# Altium footprint library Misc.PcbLib: 5 footprints
Each footprint in its own frame and in the unit in brackets; x right, y up, seen from the top. Pads: shape width x height; smd on the part's side, far side on the other; paste and mask are expansions set on the pad; w line width, h text height; cw(c..) or ccw(c..) is an arc to the next point about the centre after c.
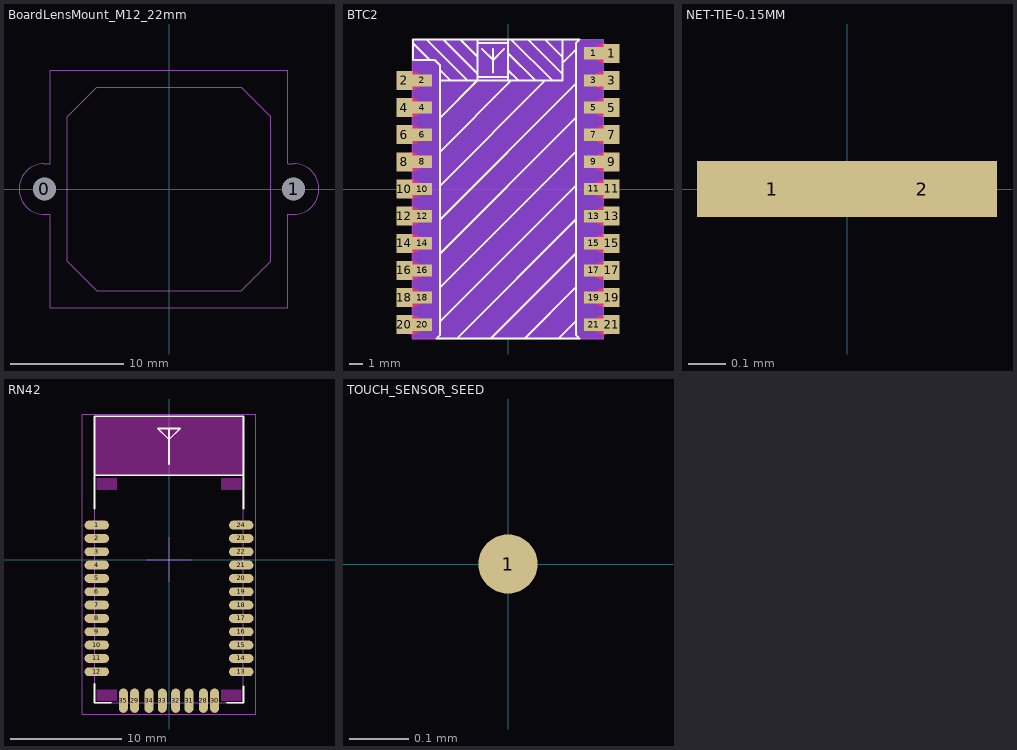
[diagram p0: the footprints below, top view; thin cyan lines are the x and y axes]

## BoardLensMount_M12_22mm [mm] "M12 (S-Mount) board lens mount base, 22mm hole distance, 16mm height"
height 16
pads (2):
  round 2 hole 2 unplated: 0(-11,0) 1(11,0)
Mechanical 13:
  lines w0.1: -11,-2.25 cw(c-11,0) -11,2.25 -10.5,2.25 -10.5,10.5 10.5,10.5 10.5,2.25 11,2.25 cw(c11,0) 11,-2.25 10.5,-2.25 10.5,-10.5 -10.5,-10.5 -10.5,-2.25 -11,-2.25 ; -9,-6.4 -9,6.4 -6.4,9 6.4,9 9,6.4 9,-6.4 6.4,-9 -6.4,-9 -9,-6.4
3D body: height 16, standoff 0, extent -13.25,-10.5 13.25,10.5

## BTC2 [mm]
pads (42):
  rect 1.45x0.9 smd: 1(6.325,10) 2(-6.325,8) 3(6.325,8) 4(-6.325,6) 5(6.325,6) 6(-6.325,4) 7(6.325,4) 8(-6.325,2) 9(6.325,2) 10(-6.325,0) 11(6.325,0) 12(-6.325,-2) 13(6.325,-2) 14(-6.325,-4) 15(6.325,-4) 16(-6.325,-6) 17(6.325,-6) 18(-6.325,-8) 19(6.325,-8) 20(-6.325,-10) 21(6.325,-10)
  rect 1.15x1.4 smd: 1(7.625,10) 2(-7.625,8) 3(7.625,8) 4(-7.625,6) 5(7.625,6) 6(-7.625,4) 7(7.625,4) 8(-7.625,2) 9(7.625,2) 10(-7.625,0) 11(7.625,0) 12(-7.625,-2) 13(7.625,-2) 14(-7.625,-4) 15(7.625,-4) 16(-7.625,-6) 17(7.625,-6) 18(-7.625,-8) 19(7.625,-8) 20(-7.625,-10) 21(7.625,-10)
Top Layer:
  region: -7.05,-9.294 -6.867,-9.318 -6.697,-9.389 -6.551,-9.501 -6.439,-9.647 -6.368,-9.817 -6.344,-10 -6.368,-10.183 -6.439,-10.353 -6.551,-10.499 -6.697,-10.611 -6.867,-10.682 -7.05,-10.706 -7.233,-10.682 -7.403,-10.611 -7.549,-10.499 -7.661,-10.353 -7.732,-10.183 -7.756,-10 -7.732,-9.817 -7.661,-9.647 -7.549,-9.501 -7.403,-9.389 -7.233,-9.318
  region: -7.05,-7.294 -6.867,-7.318 -6.697,-7.389 -6.551,-7.501 -6.439,-7.647 -6.368,-7.817 -6.344,-8 -6.368,-8.183 -6.439,-8.353 -6.551,-8.499 -6.697,-8.611 -6.867,-8.682 -7.05,-8.706 -7.233,-8.682 -7.403,-8.611 -7.549,-8.499 -7.661,-8.353 -7.732,-8.183 -7.756,-8 -7.732,-7.817 -7.661,-7.647 -7.549,-7.501 -7.403,-7.389 -7.233,-7.318
  region: -7.05,-5.294 -6.867,-5.318 -6.697,-5.389 -6.551,-5.501 -6.439,-5.647 -6.368,-5.817 -6.344,-6 -6.368,-6.183 -6.439,-6.353 -6.551,-6.499 -6.697,-6.611 -6.867,-6.682 -7.05,-6.706 -7.233,-6.682 -7.403,-6.611 -7.549,-6.499 -7.661,-6.353 -7.732,-6.183 -7.756,-6 -7.732,-5.817 -7.661,-5.647 -7.549,-5.501 -7.403,-5.389 -7.233,-5.318
  region: -7.05,-3.294 -6.867,-3.318 -6.697,-3.389 -6.551,-3.501 -6.439,-3.647 -6.368,-3.817 -6.344,-4 -6.368,-4.183 -6.439,-4.353 -6.551,-4.499 -6.697,-4.611 -6.867,-4.682 -7.05,-4.706 -7.233,-4.682 -7.403,-4.611 -7.549,-4.499 -7.661,-4.353 -7.732,-4.183 -7.756,-4 -7.732,-3.817 -7.661,-3.647 -7.549,-3.501 -7.403,-3.389 -7.233,-3.318
  region: -7.05,-1.294 -6.867,-1.318 -6.697,-1.389 -6.551,-1.501 -6.439,-1.647 -6.368,-1.817 -6.344,-2 -6.368,-2.183 -6.439,-2.353 -6.551,-2.499 -6.697,-2.611 -6.867,-2.682 -7.05,-2.706 -7.233,-2.682 -7.403,-2.611 -7.549,-2.499 -7.661,-2.353 -7.732,-2.183 -7.756,-2 -7.732,-1.817 -7.661,-1.647 -7.549,-1.501 -7.403,-1.389 -7.233,-1.318
  region: -7.05,0.706 -6.867,0.682 -6.697,0.611 -6.551,0.499 -6.439,0.353 -6.368,0.183 -6.344,0 -6.368,-0.183 -6.439,-0.353 -6.551,-0.499 -6.697,-0.611 -6.867,-0.682 -7.05,-0.706 -7.233,-0.682 -7.403,-0.611 -7.549,-0.499 -7.661,-0.353 -7.732,-0.183 -7.756,0 -7.732,0.183 -7.661,0.353 -7.549,0.499 -7.403,0.611 -7.233,0.682
  region: -7.05,2.706 -6.867,2.682 -6.697,2.611 -6.551,2.499 -6.439,2.353 -6.368,2.183 -6.344,2 -6.368,1.817 -6.439,1.647 -6.551,1.501 -6.697,1.389 -6.867,1.318 -7.05,1.294 -7.233,1.318 -7.403,1.389 -7.549,1.501 -7.661,1.647 -7.732,1.817 -7.756,2 -7.732,2.183 -7.661,2.353 -7.549,2.499 -7.403,2.611 -7.233,2.682
  region: -7.05,4.706 -6.867,4.682 -6.697,4.611 -6.551,4.499 -6.439,4.353 -6.368,4.183 -6.344,4 -6.368,3.817 -6.439,3.647 -6.551,3.501 -6.697,3.389 -6.867,3.318 -7.05,3.294 -7.233,3.318 -7.403,3.389 -7.549,3.501 -7.661,3.647 -7.732,3.817 -7.756,4 -7.732,4.183 -7.661,4.353 -7.549,4.499 -7.403,4.611 -7.233,4.682
  region: -7.05,6.706 -6.867,6.682 -6.697,6.611 -6.551,6.499 -6.439,6.353 -6.368,6.183 -6.344,6 -6.368,5.817 -6.439,5.647 -6.551,5.501 -6.697,5.389 -6.867,5.318 -7.05,5.294 -7.233,5.318 -7.403,5.389 -7.549,5.501 -7.661,5.647 -7.732,5.817 -7.756,6 -7.732,6.183 -7.661,6.353 -7.549,6.499 -7.403,6.611 -7.233,6.682
  region: 7.05,-10.706 6.867,-10.682 6.697,-10.611 6.551,-10.499 6.439,-10.353 6.368,-10.183 6.344,-10 6.368,-9.817 6.439,-9.647 6.551,-9.501 6.697,-9.389 6.867,-9.318 7.05,-9.294 7.233,-9.318 7.403,-9.389 7.549,-9.501 7.661,-9.647 7.732,-9.817 7.756,-10 7.732,-10.183 7.661,-10.353 7.549,-10.499 7.403,-10.611 7.233,-10.682
  region: 7.05,-8.706 6.867,-8.682 6.697,-8.611 6.551,-8.499 6.439,-8.353 6.368,-8.183 6.344,-8 6.368,-7.817 6.439,-7.647 6.551,-7.501 6.697,-7.389 6.867,-7.318 7.05,-7.294 7.233,-7.318 7.403,-7.389 7.549,-7.501 7.661,-7.647 7.732,-7.817 7.756,-8 7.732,-8.183 7.661,-8.353 7.549,-8.499 7.403,-8.611 7.233,-8.682
  region: 7.05,-6.706 6.867,-6.682 6.697,-6.611 6.551,-6.499 6.439,-6.353 6.368,-6.183 6.344,-6 6.368,-5.817 6.439,-5.647 6.551,-5.501 6.697,-5.389 6.867,-5.318 7.05,-5.294 7.233,-5.318 7.403,-5.389 7.549,-5.501 7.661,-5.647 7.732,-5.817 7.756,-6 7.732,-6.183 7.661,-6.353 7.549,-6.499 7.403,-6.611 7.233,-6.682
  region: 7.05,-4.706 6.867,-4.682 6.697,-4.611 6.551,-4.499 6.439,-4.353 6.368,-4.183 6.344,-4 6.368,-3.817 6.439,-3.647 6.551,-3.501 6.697,-3.389 6.867,-3.318 7.05,-3.294 7.233,-3.318 7.403,-3.389 7.549,-3.501 7.661,-3.647 7.732,-3.817 7.756,-4 7.732,-4.183 7.661,-4.353 7.549,-4.499 7.403,-4.611 7.233,-4.682
  region: 7.05,-2.706 6.867,-2.682 6.697,-2.611 6.551,-2.499 6.439,-2.353 6.368,-2.183 6.344,-2 6.368,-1.817 6.439,-1.647 6.551,-1.501 6.697,-1.389 6.867,-1.318 7.05,-1.294 7.233,-1.318 7.403,-1.389 7.549,-1.501 7.661,-1.647 7.732,-1.817 7.756,-2 7.732,-2.183 7.661,-2.353 7.549,-2.499 7.403,-2.611 7.233,-2.682
  region: 7.05,-0.706 6.867,-0.682 6.697,-0.611 6.551,-0.499 6.439,-0.353 6.368,-0.183 6.344,0 6.368,0.183 6.439,0.353 6.551,0.499 6.697,0.611 6.867,0.682 7.05,0.706 7.233,0.682 7.403,0.611 7.549,0.499 7.661,0.353 7.732,0.183 7.756,0 7.732,-0.183 7.661,-0.353 7.549,-0.499 7.403,-0.611 7.233,-0.682
  region: 7.05,1.294 6.867,1.318 6.697,1.389 6.551,1.501 6.439,1.647 6.368,1.817 6.344,2 6.368,2.183 6.439,2.353 6.551,2.499 6.697,2.611 6.867,2.682 7.05,2.706 7.233,2.682 7.403,2.611 7.549,2.499 7.661,2.353 7.732,2.183 7.756,2 7.732,1.817 7.661,1.647 7.549,1.501 7.403,1.389 7.233,1.318
  region: 7.05,3.294 6.867,3.318 6.697,3.389 6.551,3.501 6.439,3.647 6.368,3.817 6.344,4 6.368,4.183 6.439,4.353 6.551,4.499 6.697,4.611 6.867,4.682 7.05,4.706 7.233,4.682 7.403,4.611 7.549,4.499 7.661,4.353 7.732,4.183 7.756,4 7.732,3.817 7.661,3.647 7.549,3.501 7.403,3.389 7.233,3.318
  region: 7.05,5.294 6.867,5.318 6.697,5.389 6.551,5.501 6.439,5.647 6.368,5.817 6.344,6 6.368,6.183 6.439,6.353 6.551,6.499 6.697,6.611 6.867,6.682 7.05,6.706 7.233,6.682 7.403,6.611 7.549,6.499 7.661,6.353 7.732,6.183 7.756,6 7.732,5.817 7.661,5.647 7.549,5.501 7.403,5.389 7.233,5.318
  region: 7.05,7.294 6.867,7.318 6.697,7.389 6.551,7.501 6.439,7.647 6.368,7.817 6.344,8 6.368,8.183 6.439,8.353 6.551,8.499 6.697,8.611 6.867,8.682 7.05,8.706 7.233,8.682 7.403,8.611 7.549,8.499 7.661,8.353 7.732,8.183 7.756,8 7.732,7.817 7.661,7.647 7.549,7.501 7.403,7.389 7.233,7.318
  region: 7.05,9.294 6.867,9.318 6.697,9.389 6.551,9.501 6.439,9.647 6.368,9.817 6.344,10 6.368,10.183 6.439,10.353 6.551,10.499 6.697,10.611 6.867,10.682 7.05,10.706 7.233,10.682 7.403,10.611 7.549,10.499 7.661,10.353 7.732,10.183 7.756,10 7.732,9.817 7.661,9.647 7.549,9.501 7.403,9.389 7.233,9.318
  region: -7.05,8.706 -6.867,8.682 -6.697,8.611 -6.551,8.499 -6.439,8.353 -6.368,8.183 -6.344,8 -6.368,7.817 -6.439,7.647 -6.551,7.501 -6.697,7.389 -6.867,7.318 -7.05,7.294 -7.233,7.318 -7.403,7.389 -7.549,7.501 -7.661,7.647 -7.732,7.817 -7.756,8 -7.732,8.183 -7.661,8.353 -7.549,8.499 -7.403,8.611 -7.233,8.682
Bottom Layer keep-out:
  region: -7,11 -7,-11 7.05,-11 7.05,11
Top Overlay:
  lines w0.15: -7,10.75 -5.75,9.5 ; -6,11 -3,8 ; -5,-9.75 5,0.25 ; -5,-7.25 5,2.75 ; -5,-4.75 5,5.25 ; -5,-2.25 5,7.75 ; -5,0.25 2.75,8 ; -5,2.75 0.25,8 ; -5,5.25 -2.25,8 -2.25,11 ; -5,8 4,8 4,11 ; -5,8.75 -4.25,8 ; -4.75,11 -2.25,8.5 ; -3.75,-11 5,-2.25 ; -3.5,11 -2.25,9.75 ; -2.25,8.25 0,8.25 ; -2.25,10.75 0,10.75 ; -1.9,10.3 -1.1,9.5 ; -1.25,-11 5,-4.75 ; -1.1,8.6 -1.1,9.5 ; -1.1,10.3 -1.1,9.5 ; -0.3,10.3 -1.1,9.5 ; 0,8 0,11 ; 0,8.75 0.75,8 ; 0,10 2,8 ; 0.25,11 3.25,8 ; 1.25,-11 5,-7.25 ; 1.5,11 4,8.5 ; 2.75,11 4,9.75 ; 3.75,-11 5,-9.75 ; 4,9.25 5,10.25 ; -7,9.5 -5.4,9.5 -5,9.1 -5,-10.75 -5.25,-11 -4.8,-11 5.25,-11 5,-10.75 5,10.75 5.25,11 -7,11 -7,9.5
Bottom Overlay:
  lines w0.15: -7,-9.25 0.5,-1.75 ; -7,-6.75 -2,-1.75 ; -7,-4.25 -4.5,-1.75 ; -7,-1.75 -6.25,-1 ; -7,0.75 -6.25,1.5 ; -7,3.25 -2.25,8 -2.25,11 ; -7,5.724 -4.737,7.987 ; -7,9.5 -5.5,8 ; -7,10.75 -4.275,8.025 ; -6.25,-11 3,-1.75 ; -6,1.75 0.25,8 ; -6,11 -3,8 ; -4.75,11 -2.25,8.5 ; -3.75,-11 5.5,-1.75 ; -3.5,1.75 2.75,8 ; -3.5,11 -2.25,9.75 ; -2.25,8.25 0,8.25 ; -2.25,10.75 0,10.75 ; -1.9,10.3 -1.1,9.5 ; -1.25,-11 7.05,-2.7 ; -1.1,8.6 -1.1,9.5 ; -1.1,10.3 -1.1,9.5 ; -1,1.75 7.05,9.8 ; -0.3,10.3 -1.1,9.5 ; 0,8 0,10.975 ; 0,8.75 0.75,8 ; 0,10 2,8 ; 0.25,11 3.25,8 ; 1.25,-11 7.05,-5.2 ; 1.5,1.75 7.05,7.3 ; 1.5,11 4,8.5 ; 2.75,11 4,9.75 ; 3.75,-11 7.05,-7.7 ; 4,1.75 7.05,4.8 ; 4,9.25 5.75,11 ; 4,11 4,8 -7,8 ; 6.25,-11 7.05,-10.2 ; 6.25,1.5 7.05,2.3 ; 6.275,-1.025 7.05,-0.25 ; -7,8 -7,-11 -4.8,-11 7.05,-11 7.05,11 -7,11 -7,8 ; -6.25,-1.75 6.25,-1.75 6.25,1.75 -6.25,1.75 -6.25,-1.75
  text "Keep Out" at 5.5,-0.75 h1.52
Keep-Out Layer:
  drawing of 131 lines, arcs and shapes, not listed
Mechanical 13:
  lines w0.1: -7,-11 7,-11 7,11 -7,11 -7,-11
3D body: height 3, standoff 0, extent -7,-11 7,11

## NET-TIE-0.15MM [mm] "Net tie, 0.15mm track width"
pads (2):
  rect 0.4x0.15 smd paste-0.075 mask+0: 1(-0.2,0) 2(0.2,0)

## RN42 [mm] "Microchip RN42 Bluetooth Module"
height 2.4
pads (32):
  oval 2.2x0.8 smd: 1(-6.5,3.1) 2(-6.5,1.9) 3(-6.5,0.7) 4(-6.5,-0.5) 5(-6.5,-1.7) 6(-6.5,-2.9) 7(-6.5,-4.1) 8(-6.5,-5.3) 9(-6.5,-6.5) 10(-6.5,-7.7) 11(-6.5,-8.9) 12(-6.5,-10.1) 13(6.5,-10.1) 14(6.5,-8.9) 15(6.5,-7.7) 16(6.5,-6.5) 17(6.5,-5.3) 18(6.5,-4.1) 19(6.5,-2.9) 20(6.5,-1.7) 21(6.5,-0.5) 22(6.5,0.7) 23(6.5,1.9) 24(6.5,3.1)
  oval 0.8x2.2 smd mask+0.05: 28(3.1,-12.7) 29(-3.1,-12.7) 30(4.1,-12.7) 35(-4.1,-12.7)
  oval 0.8x2.2 smd: 31(1.8,-12.7) 32(0.6,-12.7) 33(-0.6,-12.7) 34(-1.8,-12.7)
Top Layer keep-out:
  region: -6.5,-12.7 -6.5,-11.7 -4.7,-11.7 -4.7,-12.7
  region: 4.7,-12.7 4.7,-11.7 6.5,-11.7 6.5,-12.7
  region: -6.5,6.3 -6.5,7.3 -4.7,7.3 -4.7,6.3
  region: 4.7,6.3 4.7,7.3 6.5,7.3 6.5,6.3
Top Overlay:
  lines w0.15: -6.7,-11.2 -6.7,-12.9 -5.2,-12.9 ; -6.7,4.6 -6.7,12.9 6.7,12.9 6.7,4.6 ; -6.7,7.6 6.7,7.6 ; 0,8.6 0,11.8 ; 5.2,-12.9 6.7,-12.9 6.7,-11.4 ; 0,10.8 1,11.8 -1,11.8 0,10.8 ; 0,10.8 0,10.8 ; 0,10.8 0,10.8
Keep-Out Layer:
  region: -6.7,12.9 6.7,12.9 6.7,7.6 -6.7,7.6
Mechanical 13:
  lines w0.1: -6.7,-12.9 -6.7,12.9 6.7,12.9 6.7,-12.9 -6.7,-12.9
Mechanical 15:
  lines w0.1: -2,0 2,0 ; 0,-2 0,2 ; -7.8,-13.9 -7.8,13.1 7.8,13.1 7.8,-13.9 -7.8,-13.9
3D body: height 2.4, standoff 0, extent -6.7,-12.9 6.7,12.9

## TOUCH_SENSOR_SEED [mm] "Self-capacitive touch sensor pad seed"
pads (1):
  round 0.1 smd paste-0.05 mask-0.05: 1(0,0)